# Altium schematic symbol library SCH - DRIVER - GATE - AD MAX15054.SchLib: 1 symbol
Pins are listed as number, name and electrical type; pins without a type are passive.

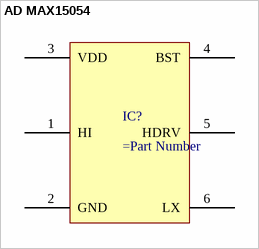
[diagram p0: symbol AD MAX15054]

## AD MAX15054
designator IC?
pins: 1 HI, 2 GND, 3 VDD, 4 BST, 5 HDRV, 6 LX